# EAGLE library part ZM1020 (library ZM1020)
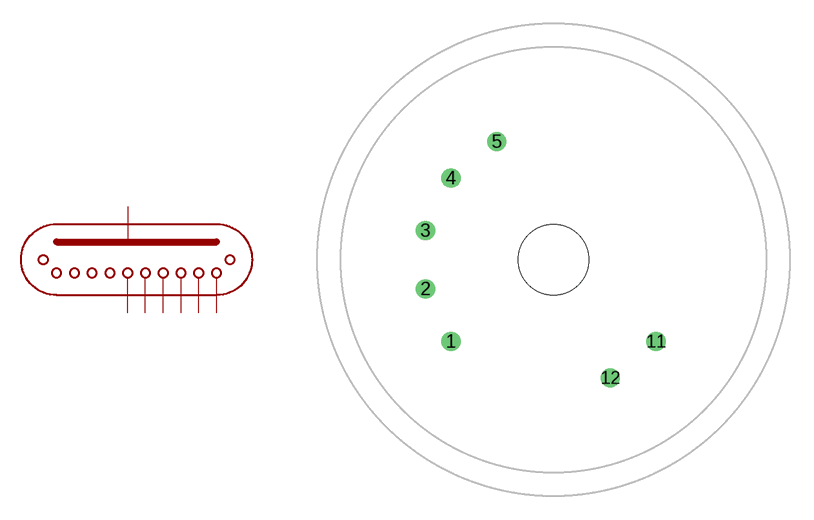
[diagram p0: symbol with the pads of ZM1020; footprint ZM1020]

Designator prefix -

## ZM1020  [ZM1020]
1  1
2  2
3  3
4  4
5  5
11  0
12  A

## Footprint ZM1020 (pad centres in mm)
drill 0.711: 1 -6.51,-5.19; 2 -8.12,-1.85; 3 -8.12,1.85; 4 -6.51,5.19; 5 -3.61,7.5; 11 6.51,-5.19; 12 3.61,-7.5
hole 4.5 at 0,0